# Altium schematic symbol library SCH - MCU - STM32 - ST MICROELECTRONICS STM32L431R(B-C)TX LQFP64.SchLib: 1 symbol
Pins are listed as number, name and electrical type; pins without a type are passive.

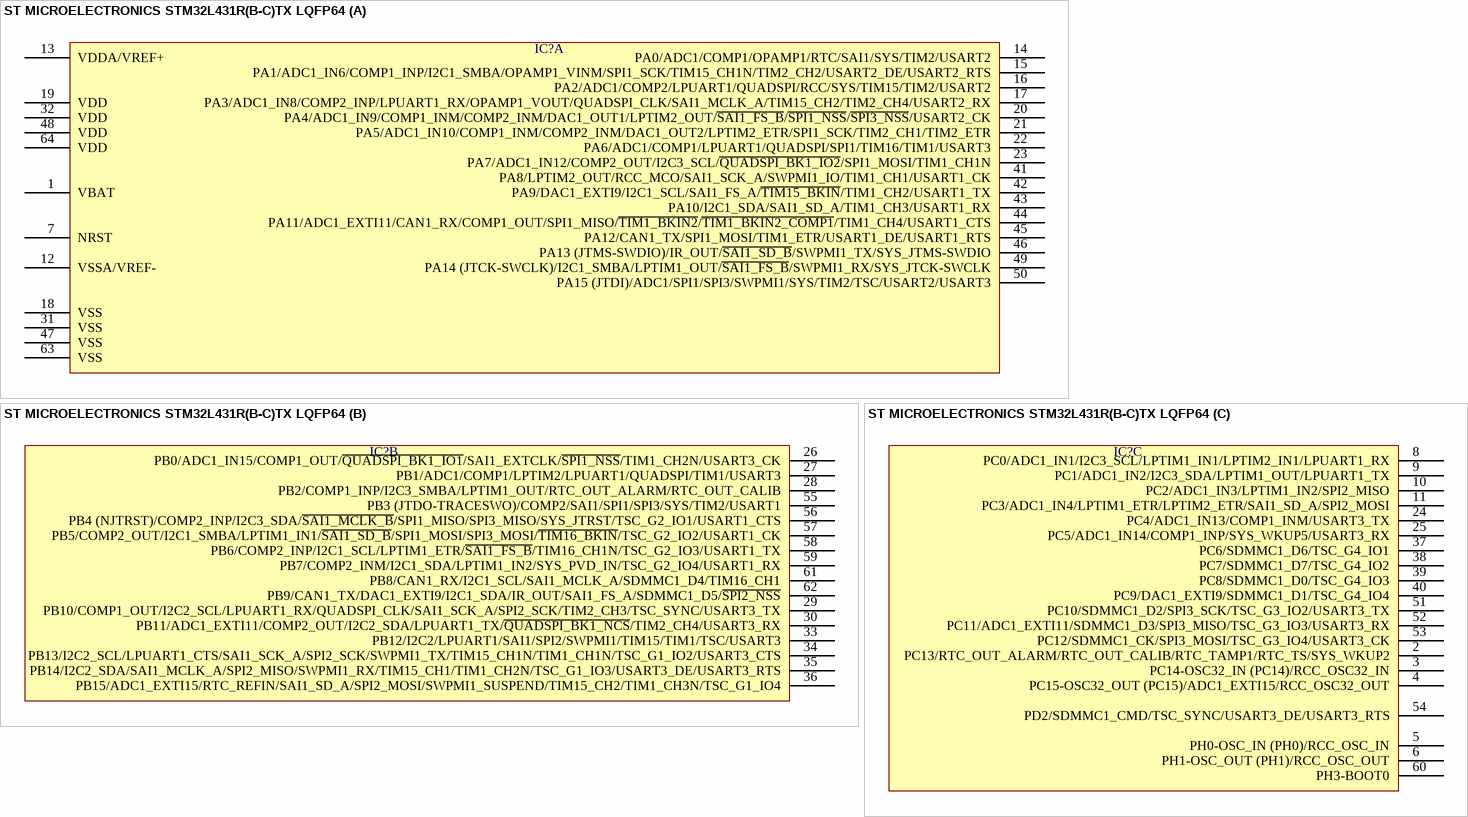
[diagram p0: symbol ST MICROELECTRONICS STM32L431R(B-C)TX LQFP64]

## ST MICROELECTRONICS STM32L431R(B-C)TX LQFP64
designator IC?  (value not drawn)
part A pins: 1 VBAT, 7 NRST, 12 VSSA/VREF-, 13 VDDA/VREF+, 14 PA0/ADC1/COMP1/OPAMP1/RTC/SAI1/SYS/TIM2/USART2, 15 PA1/ADC1_IN6/COMP1_INP/I2C1_SMBA/OPAMP1_VINM/SPI1_SCK/TIM15_CH1N/TIM2_CH2/USART2_DE/USART2_RTS, 16 PA2/ADC1/COMP2/LPUART1/QUADSPI/RCC/SYS/TIM15/TIM2/USART2, 17 PA3/ADC1_IN8/COMP2_INP/LPUART1_RX/OPAMP1_VOUT/QUADSPI_CLK/SAI1_MCLK_A/TIM15_CH2/TIM2_CH4/USART2_RX, 18 VSS, 19 VDD, 20 PA4/ADC1_IN9/COMP1_INM/COMP2_INM/DAC1_OUT1/LPTIM2_OUT/~{SAI1_FS_B}/~{SPI1_NSS}/~{SPI3_NSS}/USART2_CK, 21 PA5/ADC1_IN10/COMP1_INM/COMP2_INM/DAC1_OUT2/LPTIM2_ETR/SPI1_SCK/TIM2_CH1/TIM2_ETR, 22 PA6/ADC1/COMP1/LPUART1/QUADSPI/SPI1/TIM16/TIM1/USART3, 23 PA7/ADC1_IN12/COMP2_OUT/I2C3_SCL/~{QUADSPI_BK1_IO2}/SPI1_MOSI/TIM1_CH1N, 31 VSS, 32 VDD, 41 PA8/LPTIM2_OUT/RCC_MCO/SAI1_SCK_A/SWPMI1_IO/TIM1_CH1/USART1_CK, 42 PA9/DAC1_EXTI9/I2C1_SCL/SAI1_FS_A/~{TIM15_BKIN}/TIM1_CH2/USART1_TX, 43 PA10/I2C1_SDA/SAI1_SD_A/TIM1_CH3/USART1_RX, 44 PA11/ADC1_EXTI11/CAN1_RX/COMP1_OUT/SPI1_MISO/~{TIM1_BKIN2}/~{TIM1_BKIN2_COMP1}/TIM1_CH4/USART1_CTS, 45 PA12/CAN1_TX/SPI1_MOSI/TIM1_ETR/USART1_DE/USART1_RTS, 46 PA13 (JTMS-SWDIO)/IR_OUT/~{SAI1_SD_B}/SWPMI1_TX/SYS_JTMS-SWDIO, 47 VSS, 48 VDD, 49 PA14 (JTCK-SWCLK)/I2C1_SMBA/LPTIM1_OUT/~{SAI1_FS_B}/SWPMI1_RX/SYS_JTCK-SWCLK, 50 PA15 (JTDI)/ADC1/SPI1/SPI3/SWPMI1/SYS/TIM2/TSC/USART2/USART3, 63 VSS, 64 VDD
part B pins: 26 PB0/ADC1_IN15/COMP1_OUT/~{QUADSPI_BK1_IO1}/SAI1_EXTCLK/~{SPI1_NSS}/TIM1_CH2N/USART3_CK, 27 PB1/ADC1/COMP1/LPTIM2/LPUART1/QUADSPI/TIM1/USART3, 28 PB2/COMP1_INP/I2C3_SMBA/LPTIM1_OUT/RTC_OUT_ALARM/RTC_OUT_CALIB, 29 PB10/COMP1_OUT/I2C2_SCL/LPUART1_RX/QUADSPI_CLK/SAI1_SCK_A/SPI2_SCK/TIM2_CH3/TSC_SYNC/USART3_TX, 30 PB11/ADC1_EXTI11/COMP2_OUT/I2C2_SDA/LPUART1_TX/~{QUADSPI_BK1_NCS}/TIM2_CH4/USART3_RX, 33 PB12/I2C2/LPUART1/SAI1/SPI2/SWPMI1/TIM15/TIM1/TSC/USART3, 34 PB13/I2C2_SCL/LPUART1_CTS/SAI1_SCK_A/SPI2_SCK/SWPMI1_TX/TIM15_CH1N/TIM1_CH1N/TSC_G1_IO2/USART3_CTS, 35 PB14/I2C2_SDA/SAI1_MCLK_A/SPI2_MISO/SWPMI1_RX/TIM15_CH1/TIM1_CH2N/TSC_G1_IO3/USART3_DE/USART3_RTS, 36 PB15/ADC1_EXTI15/RTC_REFIN/SAI1_SD_A/SPI2_MOSI/SWPMI1_SUSPEND/TIM15_CH2/TIM1_CH3N/TSC_G1_IO4, 55 PB3 (JTDO-TRACESWO)/COMP2/SAI1/SPI1/SPI3/SYS/TIM2/USART1, 56 PB4 (NJTRST)/COMP2_INP/I2C3_SDA/~{SAI1_MCLK_B}/SPI1_MISO/SPI3_MISO/SYS_JTRST/TSC_G2_IO1/USART1_CTS, 57 PB5/COMP2_OUT/I2C1_SMBA/LPTIM1_IN1/~{SAI1_SD_B}/SPI1_MOSI/SPI3_MOSI/~{TIM16_BKIN}/TSC_G2_IO2/USART1_CK, 58 PB6/COMP2_INP/I2C1_SCL/LPTIM1_ETR/~{SAI1_FS_B}/TIM16_CH1N/TSC_G2_IO3/USART1_TX, 59 PB7/COMP2_INM/I2C1_SDA/LPTIM1_IN2/SYS_PVD_IN/TSC_G2_IO4/USART1_RX, 61 PB8/CAN1_RX/I2C1_SCL/SAI1_MCLK_A/SDMMC1_D4/TIM16_CH1, 62 PB9/CAN1_TX/DAC1_EXTI9/I2C1_SDA/IR_OUT/SAI1_FS_A/SDMMC1_D5/~{SPI2_NSS}
part C pins: 2 PC13/RTC_OUT_ALARM/RTC_OUT_CALIB/RTC_TAMP1/RTC_TS/SYS_WKUP2, 3 PC14-OSC32_IN (PC14)/RCC_OSC32_IN, 4 PC15-OSC32_OUT (PC15)/ADC1_EXTI15/RCC_OSC32_OUT, 5 PH0-OSC_IN (PH0)/RCC_OSC_IN, 6 PH1-OSC_OUT (PH1)/RCC_OSC_OUT, 8 PC0/ADC1_IN1/I2C3_SCL/LPTIM1_IN1/LPTIM2_IN1/LPUART1_RX, 9 PC1/ADC1_IN2/I2C3_SDA/LPTIM1_OUT/LPUART1_TX, 10 PC2/ADC1_IN3/LPTIM1_IN2/SPI2_MISO, 11 PC3/ADC1_IN4/LPTIM1_ETR/LPTIM2_ETR/SAI1_SD_A/SPI2_MOSI, 24 PC4/ADC1_IN13/COMP1_INM/USART3_TX, 25 PC5/ADC1_IN14/COMP1_INP/SYS_WKUP5/USART3_RX, 37 PC6/SDMMC1_D6/TSC_G4_IO1, 38 PC7/SDMMC1_D7/TSC_G4_IO2, 39 PC8/SDMMC1_D0/TSC_G4_IO3, 40 PC9/DAC1_EXTI9/SDMMC1_D1/TSC_G4_IO4, 51 PC10/SDMMC1_D2/SPI3_SCK/TSC_G3_IO2/USART3_TX, 52 PC11/ADC1_EXTI11/SDMMC1_D3/SPI3_MISO/TSC_G3_IO3/USART3_RX, 53 PC12/SDMMC1_CK/SPI3_MOSI/TSC_G3_IO4/USART3_CK, 54 PD2/SDMMC1_CMD/TSC_SYNC/USART3_DE/USART3_RTS, 60 PH3-BOOT0